# Altium schematic symbol library SA602AD.SchLib: 1 symbol
Pins are listed as number, name and electrical type; pins without a type are passive.

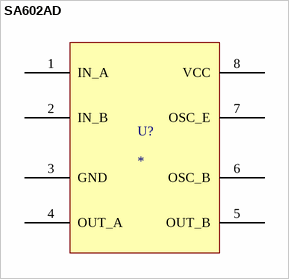
[diagram p0: symbol SA602AD]

## SA602AD
designator U?
Double Balanced Mixer
pins: 1 IN_A, 2 IN_B, 3 GND, 4 OUT_A, 5 OUT_B, 6 OSC_B, 7 OSC_E, 8 VCC